# EAGLE library part 95278-101A06LF (library 95278-101A14LF_snapEDA)
Board-Board Connector Header, 6 Position, 2row, Full Reel
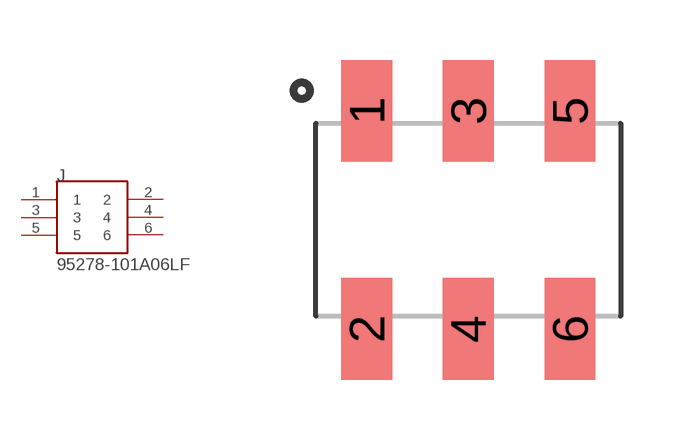
[diagram p0: symbol with the pads of AMPHENOL_95278-101A06LF; footprint AMPHENOL_95278-101A06LF]

Designator prefix J

## 95278-101A06LF (AVAILABILITY: Unavailable; DESCRIPTION: Board-Board Connector Header, 6 Position, 2row, Full Reel; MF: Amphenol ICC; MP: 95278-101A06LF; PACKAGE: None; PRICE: None)  [AMPHENOL_95278-101A06LF]
1  1  pas
2  2  pas
3  3  pas
4  4  pas
5  5  pas
6  6  pas

## Footprint AMPHENOL_95278-101A06LF (pad centres in mm)
smd 1.27 x 2.54: 1 -2.54,2.73; 2 -2.54,-2.73; 3 0,2.73; 4 0,-2.73; 5 2.54,2.73; 6 2.54,-2.73